# Altium schematic symbol library Electromechanical.SchLib: 1 symbol
Pins are listed as number, name and electrical type; pins without a type are passive.

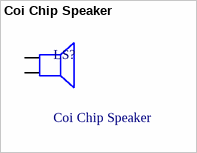
[diagram p0: symbol Coi Chip Speaker]

## Coi Chip Speaker
designator LS?
Còi chip
footprint Coi Chip Speacker
pins: 1, 2